# EAGLE library part TPS5450 (library ElevenDroids - ICs)
5-A, WIDE INPUT RANGE, STEP-DOWN SWIFT CONVERTER
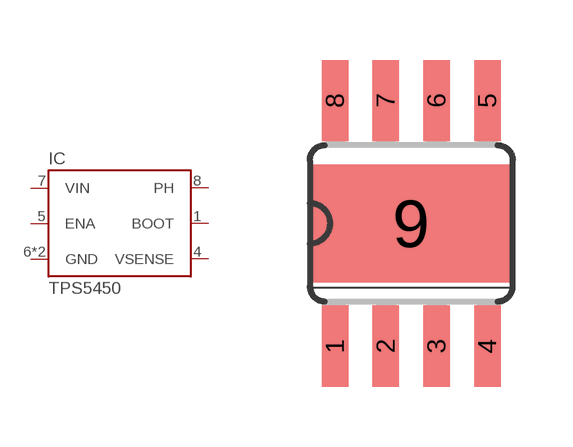
[diagram p11: symbol with the pads of HTSSOP8DDA; footprint HTSSOP8DDA]

Designator prefix IC

## TPS5450DDA  [HTSSOP8DDA]
1  BOOT  in
4  VSENSE  in
5  ENA  in
6  GND  pas
7  VIN  pwr
8  PH  out
9  GND  pas

## Footprint HTSSOP8DDA (pad centres in mm)
smd 0.66 x 2.032: 1 -1.905,-3.073; 2 -0.635,-3.073; 3 0.635,-3.073; 4 1.905,-3.073; 5 1.905,3.073; 6 0.635,3.073; 7 -0.635,3.073; 8 -1.905,3.073
smd 4.9 x 2.95: 9 0,0